# EAGLE library part A3953 (library 0Robin)
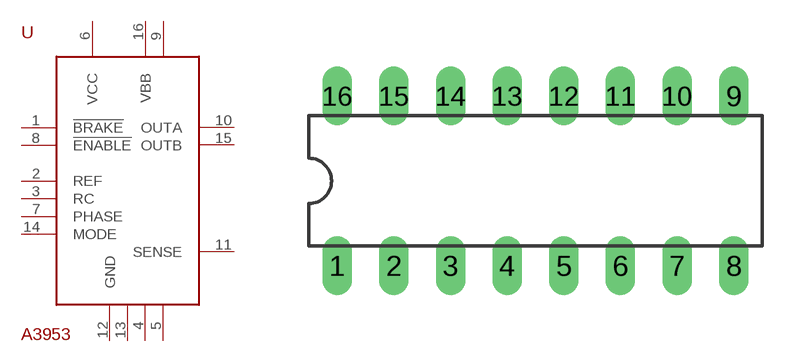
[diagram p6: symbol with the pads of DIL16; footprint DIL16]

Designator prefix -

## A3953  [DIL16]
1  !BRAKE  in
2  REF  in
3  RC
4  GND1  pwr
5  GND2  pwr
6  VCC  pwr
7  PHASE  in
8  !ENABLE  in
9  VBB2  pwr
10  OUTA  out
11  SENSE  in
12  GND  pwr
13  GND3  pwr
14  MODE  in
15  OUTB  out
16  VBB  pwr

## Footprint DIL16 (pad centres in mm)
16-pin Dual Inline Package
drill 0.813 long: 1 -8.89,-3.81; 2 -6.35,-3.81; 3 -3.81,-3.81; 4 -1.27,-3.81; 5 1.27,-3.81; 6 3.81,-3.81; 7 6.35,-3.81; 8 8.89,-3.81; 9 8.89,3.81; 10 6.35,3.81; 11 3.81,3.81; 12 1.27,3.81; 13 -1.27,3.81; 14 -3.81,3.81; 15 -6.35,3.81; 16 -8.89,3.81